# Altium integrated library Linear Technology Power Management Switching Regulator LT1074-LT8705.IntLib: 2252 symbols (part 140 of 148)
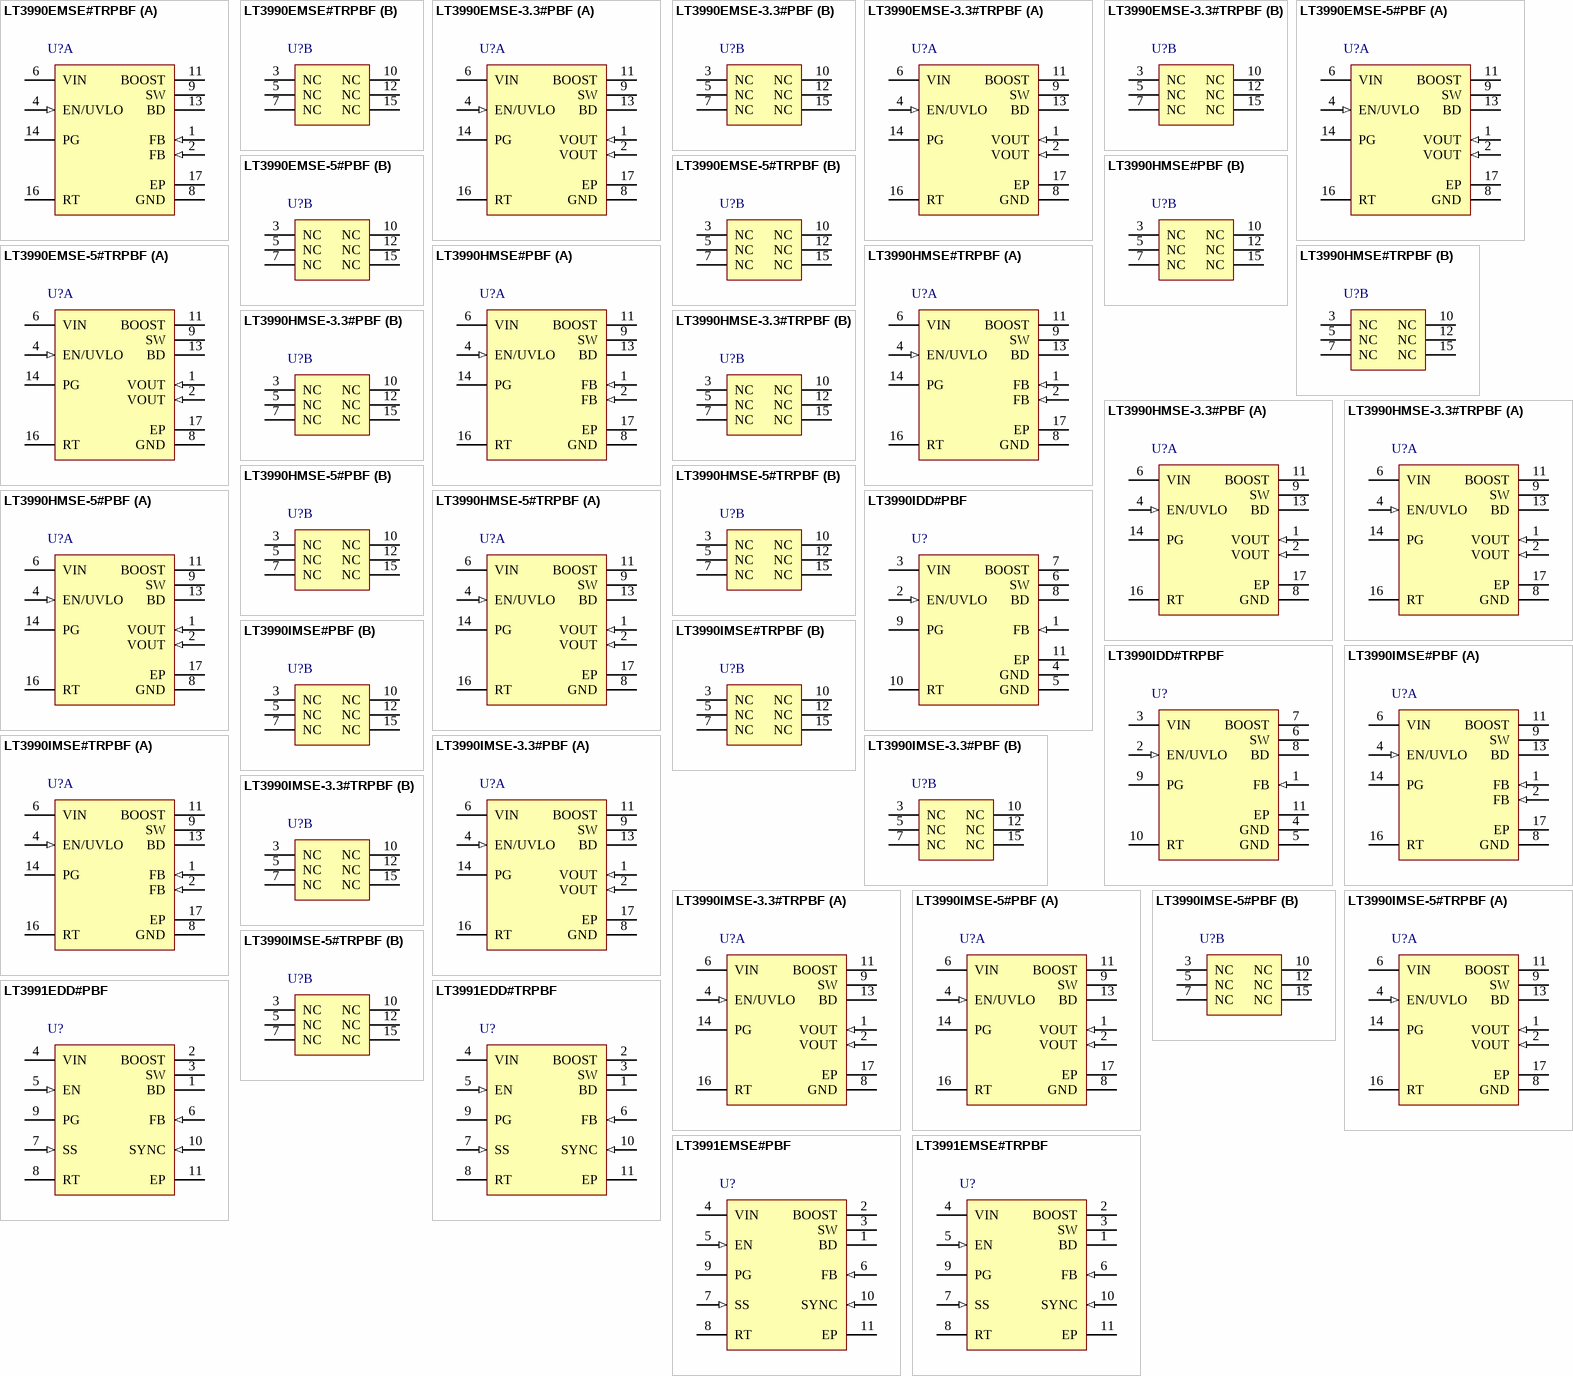
[diagram p210: symbols LT3990EMSE#TRPBF to LT3991EMSE#TRPBF]

## LT3990HMSE-3.3#TRPBF
designator U?
350 mA Step-Down Regulator with 2.5 uA Quiescent Current and Integrated Diodes, 16-pin SOP (MSE-16-EDP), -40 to 150 degC, Pb-Free, Tape and Reel; Manufacturer: Linear Technology; PartNumber: LT3990HMSE-3.3#TRPBF; Frequency Adjust Range: 200kHz - 2.2MHz; Number of Outputs: 1; DatasheetVersion: Rev. B; PackageVersion: Rev. F, 05/2013; PackageReference: MSE-16; PackageDescription: 16-Pin Plastic MSOP, Exposed Die Pad, Body 4.039 x 3 mm, Pitch 0.5 mm; Supplier 1: Digi-Key; Supplier Part Number 1: LT3990HMSE-3.3#TRPBF-ND; Supplier 2: Newark; Supplier Part Number 2: 24W8542; Packing: Tape and Reel; RoHS: TRUE; Mounting Technology: Surface Mount; ComponentLink1Description: Manufacturer URL; ComponentLink1URL: http://www.linear.com/; ComponentLink2Description: Datasheet; ComponentLink2URL: http://cds.linear.com/docs/en/datasheet/3990fa.pdf; ComponentLink3Description: Package Specification; ComponentLink3URL: http://cds.linear.com/docs/en/packaging/05081667_F_MSE16.pdf
footprint LT-MSE-16-EDP_N (SOP, 16-Leads, Body 4.1x3.1mm, Pitch 0.5mm, Thermal Pad 2.95x1.76mm, IPC Medium Density)
footprint LT-MSE-16-EDP_L (SOP, 16-Leads, Body 4.1x3.1mm, Pitch 0.5mm, Thermal Pad 2.95x1.76mm, IPC High Density)
footprint LT-MSE-16-EDP_M (SOP, 16-Leads, Body 4.1x3.1mm, Pitch 0.5mm, Thermal Pad 2.95x1.76mm, IPC Low Density)
part A pins: 1 VOUT (in) "The LT3990-3.3 and LT3990-5 regulate the VOUT pin to 3.3V and 5V, respectively. This pin connects to the internal feedback divider that programs the fixed output voltage. The two VOUT pins are connected internally and (See Datasheet)", 2 VOUT (in) "The LT3990-3.3 and LT3990-5 regulate the VOUT pin to 3.3V and 5V, respectively. This pin connects to the internal feedback divider that programs the fixed output voltage. The two VOUT pins are connected internally and (See Datasheet)", 4 EN/UVLO (in) "The part is in shutdown when this pin is low and active when this pin is high. The threshold voltage is 1.19V going up with 35mV of hysteresis. Tie to VIN if shutdown feature is not used. The EN/UVLO threshold is accurate (See Datasheet)", 6 VIN (power) "The VIN pin supplies current to the LT3990’s internal circuitry and to the internal power switch. This pin must be locally bypassed.", 8 GND (power) "Ground.", 9 SW (power) "The SW pin is the output of an internal power switch. Connect this pin to the inductor.", 11 BOOST "This pin is used to provide a drive voltage, higher than the input voltage, to the internal bipolar NPN power switch.", 13 BD (power) "This pin connects to the anode of the boost diode. This pin also supplies current to the LT3990’s internal regulator when BD is above 3.2V.", 14 PG (oc) "The PG pin is the open-drain output of an internal comparator. PG remains low until the FB pin is within 10% of the final regulation voltage. PG is valid when VIN is above 4.2V and EN/UVLO is high.", 16 RT "A resistor is tied between RT and ground to set the switching frequency.", 17 EP (power) "Ground. The exposed pad must be soldered to the PCB."
part B pins: 3 NC "No Connects. These pins are not connected to internal circuitry and must be left floating to ensure fault tolerance.", 5 NC "No Connects. These pins are not connected to internal circuitry and must be left floating to ensure fault tolerance.", 7 NC "No Connects. These pins are not connected to internal circuitry and must be left floating to ensure fault tolerance.", 10 NC "No Connects. These pins are not connected to internal circuitry and must be left floating to ensure fault tolerance.", 12 NC "No Connects. These pins are not connected to internal circuitry and must be left floating to ensure fault tolerance.", 15 NC "No Connects. These pins are not connected to internal circuitry and must be left floating to ensure fault tolerance."

## LT3990HMSE-5#PBF
designator U?
350 mA Step-Down Regulator with 2.5 uA Quiescent Current and Integrated Diodes, 16-pin SOP (MSE-16-EDP), -40 to 150 degC, Pb-Free; Manufacturer: Linear Technology; PartNumber: LT3990HMSE-5#PBF; Frequency Adjust Range: 200kHz - 2.2MHz; Number of Outputs: 1; DatasheetVersion: Rev. B; PackageVersion: Rev. F, 05/2013; PackageReference: MSE-16; PackageDescription: 16-Pin Plastic MSOP, Exposed Die Pad, Body 4.039 x 3 mm, Pitch 0.5 mm; Supplier 1: Digi-Key; Supplier Part Number 1: LT3990HMSE-5#PBF-ND; Supplier 2: Farnell; Supplier Part Number 2: 2145079; Supplier 3: Newark; Supplier Part Number 3: 24W8543; RoHS: TRUE; Mounting Technology: Surface Mount; ComponentLink1Description: Manufacturer URL; ComponentLink1URL: http://www.linear.com/; ComponentLink2Description: Datasheet; ComponentLink2URL: http://cds.linear.com/docs/en/datasheet/3990fa.pdf; ComponentLink3Description: Package Specification; ComponentLink3URL: http://cds.linear.com/docs/en/packaging/05081667_F_MSE16.pdf
footprint LT-MSE-16-EDP_N (SOP, 16-Leads, Body 4.1x3.1mm, Pitch 0.5mm, Thermal Pad 2.95x1.76mm, IPC Medium Density)
footprint LT-MSE-16-EDP_L (SOP, 16-Leads, Body 4.1x3.1mm, Pitch 0.5mm, Thermal Pad 2.95x1.76mm, IPC High Density)
footprint LT-MSE-16-EDP_M (SOP, 16-Leads, Body 4.1x3.1mm, Pitch 0.5mm, Thermal Pad 2.95x1.76mm, IPC Low Density)
part A pins: 1 VOUT (in) "The LT3990-3.3 and LT3990-5 regulate the VOUT pin to 3.3V and 5V, respectively. This pin connects to the internal feedback divider that programs the fixed output voltage. The two VOUT pins are connected internally and (See Datasheet)", 2 VOUT (in) "The LT3990-3.3 and LT3990-5 regulate the VOUT pin to 3.3V and 5V, respectively. This pin connects to the internal feedback divider that programs the fixed output voltage. The two VOUT pins are connected internally and (See Datasheet)", 4 EN/UVLO (in) "The part is in shutdown when this pin is low and active when this pin is high. The threshold voltage is 1.19V going up with 35mV of hysteresis. Tie to VIN if shutdown feature is not used. The EN/UVLO threshold is accurate (See Datasheet)", 6 VIN (power) "The VIN pin supplies current to the LT3990’s internal circuitry and to the internal power switch. This pin must be locally bypassed.", 8 GND (power) "Ground.", 9 SW (power) "The SW pin is the output of an internal power switch. Connect this pin to the inductor.", 11 BOOST "This pin is used to provide a drive voltage, higher than the input voltage, to the internal bipolar NPN power switch.", 13 BD (power) "This pin connects to the anode of the boost diode. This pin also supplies current to the LT3990’s internal regulator when BD is above 3.2V.", 14 PG (oc) "The PG pin is the open-drain output of an internal comparator. PG remains low until the FB pin is within 10% of the final regulation voltage. PG is valid when VIN is above 4.2V and EN/UVLO is high.", 16 RT "A resistor is tied between RT and ground to set the switching frequency.", 17 EP (power) "Ground. The exposed pad must be soldered to the PCB."
part B pins: 3 NC "No Connects. These pins are not connected to internal circuitry and must be left floating to ensure fault tolerance.", 5 NC "No Connects. These pins are not connected to internal circuitry and must be left floating to ensure fault tolerance.", 7 NC "No Connects. These pins are not connected to internal circuitry and must be left floating to ensure fault tolerance.", 10 NC "No Connects. These pins are not connected to internal circuitry and must be left floating to ensure fault tolerance.", 12 NC "No Connects. These pins are not connected to internal circuitry and must be left floating to ensure fault tolerance.", 15 NC "No Connects. These pins are not connected to internal circuitry and must be left floating to ensure fault tolerance."

## LT3990HMSE-5#TRPBF
designator U?
350 mA Step-Down Regulator with 2.5 uA Quiescent Current and Integrated Diodes, 16-pin SOP (MSE-16-EDP), -40 to 150 degC, Pb-Free, Tape and Reel; Manufacturer: Linear Technology; PartNumber: LT3990HMSE-5#TRPBF; Frequency Adjust Range: 200kHz - 2.2MHz; Number of Outputs: 1; DatasheetVersion: Rev. B; PackageVersion: Rev. F, 05/2013; PackageReference: MSE-16; PackageDescription: 16-Pin Plastic MSOP, Exposed Die Pad, Body 4.039 x 3 mm, Pitch 0.5 mm; Supplier 1: Digi-Key; Supplier Part Number 1: LT3990HMSE-5#TRPBF-ND; Supplier 2: Newark; Supplier Part Number 2: 24W8544; Packing: Tape and Reel; RoHS: TRUE; Mounting Technology: Surface Mount; ComponentLink1Description: Manufacturer URL; ComponentLink1URL: http://www.linear.com/; ComponentLink2Description: Datasheet; ComponentLink2URL: http://cds.linear.com/docs/en/datasheet/3990fa.pdf; ComponentLink3Description: Package Specification; ComponentLink3URL: http://cds.linear.com/docs/en/packaging/05081667_F_MSE16.pdf
footprint LT-MSE-16-EDP_N (SOP, 16-Leads, Body 4.1x3.1mm, Pitch 0.5mm, Thermal Pad 2.95x1.76mm, IPC Medium Density)
footprint LT-MSE-16-EDP_L (SOP, 16-Leads, Body 4.1x3.1mm, Pitch 0.5mm, Thermal Pad 2.95x1.76mm, IPC High Density)
footprint LT-MSE-16-EDP_M (SOP, 16-Leads, Body 4.1x3.1mm, Pitch 0.5mm, Thermal Pad 2.95x1.76mm, IPC Low Density)
part A pins: 1 VOUT (in) "The LT3990-3.3 and LT3990-5 regulate the VOUT pin to 3.3V and 5V, respectively. This pin connects to the internal feedback divider that programs the fixed output voltage. The two VOUT pins are connected internally and (See Datasheet)", 2 VOUT (in) "The LT3990-3.3 and LT3990-5 regulate the VOUT pin to 3.3V and 5V, respectively. This pin connects to the internal feedback divider that programs the fixed output voltage. The two VOUT pins are connected internally and (See Datasheet)", 4 EN/UVLO (in) "The part is in shutdown when this pin is low and active when this pin is high. The threshold voltage is 1.19V going up with 35mV of hysteresis. Tie to VIN if shutdown feature is not used. The EN/UVLO threshold is accurate (See Datasheet)", 6 VIN (power) "The VIN pin supplies current to the LT3990’s internal circuitry and to the internal power switch. This pin must be locally bypassed.", 8 GND (power) "Ground.", 9 SW (power) "The SW pin is the output of an internal power switch. Connect this pin to the inductor.", 11 BOOST "This pin is used to provide a drive voltage, higher than the input voltage, to the internal bipolar NPN power switch.", 13 BD (power) "This pin connects to the anode of the boost diode. This pin also supplies current to the LT3990’s internal regulator when BD is above 3.2V.", 14 PG (oc) "The PG pin is the open-drain output of an internal comparator. PG remains low until the FB pin is within 10% of the final regulation voltage. PG is valid when VIN is above 4.2V and EN/UVLO is high.", 16 RT "A resistor is tied between RT and ground to set the switching frequency.", 17 EP (power) "Ground. The exposed pad must be soldered to the PCB."
part B pins: 3 NC "No Connects. These pins are not connected to internal circuitry and must be left floating to ensure fault tolerance.", 5 NC "No Connects. These pins are not connected to internal circuitry and must be left floating to ensure fault tolerance.", 7 NC "No Connects. These pins are not connected to internal circuitry and must be left floating to ensure fault tolerance.", 10 NC "No Connects. These pins are not connected to internal circuitry and must be left floating to ensure fault tolerance.", 12 NC "No Connects. These pins are not connected to internal circuitry and must be left floating to ensure fault tolerance.", 15 NC "No Connects. These pins are not connected to internal circuitry and must be left floating to ensure fault tolerance."

## LT3990IDD#PBF
designator U?
350 mA Step-Down Regulator with 2.5 uA Quiescent Current and Integrated Diodes, 10-pin SON (DD-10), -40 to 125 degC, Pb-Free; Manufacturer: Linear Technology; PartNumber: LT3990IDD#PBF; Frequency Adjust Range: 200kHz - 2.2MHz; Number of Outputs: 1; DatasheetVersion: Rev. B; PackageVersion: Rev. C, 06/2010; PackageReference: DD-10; PackageDescription: 10-Pin Plastic DFN, Body 3 x 3 mm, Pitch 0.5 mm; Supplier 1: Digi-Key; Supplier Part Number 1: LT3990IDD#PBF-ND; Supplier 2: Farnell; Supplier Part Number 2: 2294971; Supplier 3: Newark; Supplier Part Number 3: 13T8601; RoHS: TRUE; Mounting Technology: Surface Mount; Code_JEDEC: MO-229; ComponentLink1Description: Manufacturer URL; ComponentLink1URL: http://www.linear.com/; ComponentLink2Description: Datasheet; ComponentLink2URL: http://cds.linear.com/docs/en/datasheet/3990fa.pdf; ComponentLink3Description: Package Specification; ComponentLink3URL: http://cds.linear.com/docs/en/packaging/DFN_10_05-08-1699.pdf
footprint LT-DD-10_V (SON, 10-Leads, Body 3x3mm, Pitch 0.5mm, Thermal Pad 2.38x1.65mm)
pins: 1 FB (in) "The LT3990 regulates the FB pin to 1.21V. Connect the feedback resistor divider tap to this pin. The two FB pins on the MSE package are connected internally and provide a redundant path for the feedback divider. Tie the (See Datasheet)", 2 EN/UVLO (in) "The part is in shutdown when this pin is low and active when this pin is high. The threshold voltage is 1.19V going up with 35mV of hysteresis. Tie to VIN if shutdown feature is not used. The EN/UVLO threshold is accurate (See Datasheet)", 3 VIN (power) "The VIN pin supplies current to the LT3990’s internal circuitry and to the internal power switch. This pin must be locally bypassed.", 4 GND (power) "Ground.", 5 GND (power) "Ground.", 6 SW (power) "The SW pin is the output of an internal power switch. Connect this pin to the inductor.", 7 BOOST "This pin is used to provide a drive voltage, higher than the input voltage, to the internal bipolar NPN power switch.", 8 BD (power) "This pin connects to the anode of the boost diode. This pin also supplies current to the LT3990’s internal regulator when BD is above 3.2V.", 9 PG (oc) "The PG pin is the open-drain output of an internal comparator. PG remains low until the FB pin is within 10% of the final regulation voltage. PG is valid when VIN is above 4.2V and EN/UVLO is high.", 10 RT "A resistor is tied between RT and ground to set the switching frequency.", 11 EP (power) "The exposed pad must be soldered to the PCB."

## LT3990IDD#TRPBF
designator U?
350 mA Step-Down Regulator with 2.5 uA Quiescent Current and Integrated Diodes, 10-pin SON (DD-10), -40 to 125 degC, Pb-Free, Tape and Reel; Manufacturer: Linear Technology; PartNumber: LT3990IDD#TRPBF; Frequency Adjust Range: 200kHz - 2.2MHz; Number of Outputs: 1; DatasheetVersion: Rev. B; PackageVersion: Rev. C, 06/2010; PackageReference: DD-10; PackageDescription: 10-Pin Plastic DFN, Body 3 x 3 mm, Pitch 0.5 mm; Supplier 1: Digi-Key; Supplier Part Number 1: LT3990IDD#TRPBF-ND; Supplier 2: Newark; Supplier Part Number 2: 13T8602; Packing: Tape and Reel; RoHS: TRUE; Mounting Technology: Surface Mount; Code_JEDEC: MO-229; ComponentLink1Description: Manufacturer URL; ComponentLink1URL: http://www.linear.com/; ComponentLink2Description: Datasheet; ComponentLink2URL: http://cds.linear.com/docs/en/datasheet/3990fa.pdf; ComponentLink3Description: Package Specification; ComponentLink3URL: http://cds.linear.com/docs/en/packaging/DFN_10_05-08-1699.pdf
footprint LT-DD-10_V (SON, 10-Leads, Body 3x3mm, Pitch 0.5mm, Thermal Pad 2.38x1.65mm)
pins: 1 FB (in) "The LT3990 regulates the FB pin to 1.21V. Connect the feedback resistor divider tap to this pin. The two FB pins on the MSE package are connected internally and provide a redundant path for the feedback divider. Tie the (See Datasheet)", 2 EN/UVLO (in) "The part is in shutdown when this pin is low and active when this pin is high. The threshold voltage is 1.19V going up with 35mV of hysteresis. Tie to VIN if shutdown feature is not used. The EN/UVLO threshold is accurate (See Datasheet)", 3 VIN (power) "The VIN pin supplies current to the LT3990’s internal circuitry and to the internal power switch. This pin must be locally bypassed.", 4 GND (power) "Ground.", 5 GND (power) "Ground.", 6 SW (power) "The SW pin is the output of an internal power switch. Connect this pin to the inductor.", 7 BOOST "This pin is used to provide a drive voltage, higher than the input voltage, to the internal bipolar NPN power switch.", 8 BD (power) "This pin connects to the anode of the boost diode. This pin also supplies current to the LT3990’s internal regulator when BD is above 3.2V.", 9 PG (oc) "The PG pin is the open-drain output of an internal comparator. PG remains low until the FB pin is within 10% of the final regulation voltage. PG is valid when VIN is above 4.2V and EN/UVLO is high.", 10 RT "A resistor is tied between RT and ground to set the switching frequency.", 11 EP (power) "The exposed pad must be soldered to the PCB."

## LT3990IMSE#PBF
designator U?
350 mA Step-Down Regulator with 2.5 uA Quiescent Current and Integrated Diodes, 16-pin SOP (MSE-16-EDP), -40 to 125 degC, Pb-Free; Manufacturer: Linear Technology; PartNumber: LT3990IMSE#PBF; Frequency Adjust Range: 200kHz - 2.2MHz; Number of Outputs: 1; DatasheetVersion: Rev. B; PackageVersion: Rev. F, 05/2013; PackageReference: MSE-16; PackageDescription: 16-Pin Plastic MSOP, Exposed Die Pad, Body 4.039 x 3 mm, Pitch 0.5 mm; Supplier 1: Digi-Key; Supplier Part Number 1: LT3990IMSE#PBF-ND; Supplier 2: Newark; Supplier Part Number 2: 13T8603; RoHS: TRUE; Mounting Technology: Surface Mount; ComponentLink1Description: Manufacturer URL; ComponentLink1URL: http://www.linear.com/; ComponentLink2Description: Datasheet; ComponentLink2URL: http://cds.linear.com/docs/en/datasheet/3990fa.pdf; ComponentLink3Description: Package Specification; ComponentLink3URL: http://cds.linear.com/docs/en/packaging/05081667_F_MSE16.pdf
footprint LT-MSE-16-EDP_N (SOP, 16-Leads, Body 4.1x3.1mm, Pitch 0.5mm, Thermal Pad 2.95x1.76mm, IPC Medium Density)
footprint LT-MSE-16-EDP_L (SOP, 16-Leads, Body 4.1x3.1mm, Pitch 0.5mm, Thermal Pad 2.95x1.76mm, IPC High Density)
footprint LT-MSE-16-EDP_M (SOP, 16-Leads, Body 4.1x3.1mm, Pitch 0.5mm, Thermal Pad 2.95x1.76mm, IPC Low Density)
part A pins: 1 FB (in) "The LT3990 regulates the FB pin to 1.21V. Connect the feedback resistor divider tap to this pin. The two FB pins on the MSE package are connected internally and provide a redundant path for the feedback divider. Tie the (See Datasheet)", 2 FB (in) "The LT3990 regulates the FB pin to 1.21V. Connect the feedback resistor divider tap to this pin. The two FB pins on the MSE package are connected internally and provide a redundant path for the feedback divider. Tie the (See Datasheet)", 4 EN/UVLO (in) "The part is in shutdown when this pin is low and active when this pin is high. The threshold voltage is 1.19V going up with 35mV of hysteresis. Tie to VIN if shutdown feature is not used. The EN/UVLO threshold is accurate (See Datasheet)", 6 VIN (power) "The VIN pin supplies current to the LT3990’s internal circuitry and to the internal power switch. This pin must be locally bypassed.", 8 GND (power) "Ground. The exposed pad must be soldered to the PCB.", 9 SW (power) "The SW pin is the output of an internal power switch. Connect this pin to the inductor.", 11 BOOST "This pin is used to provide a drive voltage, higher than the input voltage, to the internal bipolar NPN power switch.", 13 BD (power) "This pin connects to the anode of the boost diode. This pin also supplies current to the LT3990’s internal regulator when BD is above 3.2V.", 14 PG (oc) "The PG pin is the open-drain output of an internal comparator. PG remains low until the FB pin is within 10% of the final regulation voltage. PG is valid when VIN is above 4.2V and EN/UVLO is high.", 16 RT "A resistor is tied between RT and ground to set the switching frequency.", 17 EP (power) "Ground. The exposed pad must be soldered to the PCB."
part B pins: 3 NC "No Connects. These pins are not connected to internal circuitry and must be left floating to ensure fault tolerance.", 5 NC "No Connects. These pins are not connected to internal circuitry and must be left floating to ensure fault tolerance.", 7 NC "No Connects. These pins are not connected to internal circuitry and must be left floating to ensure fault tolerance.", 10 NC "No Connects. These pins are not connected to internal circuitry and must be left floating to ensure fault tolerance.", 12 NC "No Connects. These pins are not connected to internal circuitry and must be left floating to ensure fault tolerance.", 15 NC "No Connects. These pins are not connected to internal circuitry and must be left floating to ensure fault tolerance."

## LT3990IMSE#TRPBF
designator U?
350 mA Step-Down Regulator with 2.5 uA Quiescent Current and Integrated Diodes, 16-pin SOP (MSE-16-EDP), -40 to 125 degC, Pb-Free, Tape and Reel; Manufacturer: Linear Technology; PartNumber: LT3990IMSE#TRPBF; Frequency Adjust Range: 200kHz - 2.2MHz; Number of Outputs: 1; DatasheetVersion: Rev. B; PackageVersion: Rev. F, 05/2013; PackageReference: MSE-16; PackageDescription: 16-Pin Plastic MSOP, Exposed Die Pad, Body 4.039 x 3 mm, Pitch 0.5 mm; Supplier 1: Digi-Key; Supplier Part Number 1: LT3990IMSE#TRPBF-ND; Supplier 2: Newark; Supplier Part Number 2: 13T8604; Packing: Tape and Reel; RoHS: TRUE; Mounting Technology: Surface Mount; ComponentLink1Description: Manufacturer URL; ComponentLink1URL: http://www.linear.com/; ComponentLink2Description: Datasheet; ComponentLink2URL: http://cds.linear.com/docs/en/datasheet/3990fa.pdf; ComponentLink3Description: Package Specification; ComponentLink3URL: http://cds.linear.com/docs/en/packaging/05081667_F_MSE16.pdf
footprint LT-MSE-16-EDP_N (SOP, 16-Leads, Body 4.1x3.1mm, Pitch 0.5mm, Thermal Pad 2.95x1.76mm, IPC Medium Density)
footprint LT-MSE-16-EDP_L (SOP, 16-Leads, Body 4.1x3.1mm, Pitch 0.5mm, Thermal Pad 2.95x1.76mm, IPC High Density)
footprint LT-MSE-16-EDP_M (SOP, 16-Leads, Body 4.1x3.1mm, Pitch 0.5mm, Thermal Pad 2.95x1.76mm, IPC Low Density)
part A pins: 1 FB (in) "The LT3990 regulates the FB pin to 1.21V. Connect the feedback resistor divider tap to this pin. The two FB pins on the MSE package are connected internally and provide a redundant path for the feedback divider. Tie the (See Datasheet)", 2 FB (in) "The LT3990 regulates the FB pin to 1.21V. Connect the feedback resistor divider tap to this pin. The two FB pins on the MSE package are connected internally and provide a redundant path for the feedback divider. Tie the (See Datasheet)", 4 EN/UVLO (in) "The part is in shutdown when this pin is low and active when this pin is high. The threshold voltage is 1.19V going up with 35mV of hysteresis. Tie to VIN if shutdown feature is not used. The EN/UVLO threshold is accurate (See Datasheet)", 6 VIN (power) "The VIN pin supplies current to the LT3990’s internal circuitry and to the internal power switch. This pin must be locally bypassed.", 8 GND (power) "Ground. The exposed pad must be soldered to the PCB.", 9 SW (power) "The SW pin is the output of an internal power switch. Connect this pin to the inductor.", 11 BOOST "This pin is used to provide a drive voltage, higher than the input voltage, to the internal bipolar NPN power switch.", 13 BD (power) "This pin connects to the anode of the boost diode. This pin also supplies current to the LT3990’s internal regulator when BD is above 3.2V.", 14 PG (oc) "The PG pin is the open-drain output of an internal comparator. PG remains low until the FB pin is within 10% of the final regulation voltage. PG is valid when VIN is above 4.2V and EN/UVLO is high.", 16 RT "A resistor is tied between RT and ground to set the switching frequency.", 17 EP (power) "Ground. The exposed pad must be soldered to the PCB."
part B pins: 3 NC "No Connects. These pins are not connected to internal circuitry and must be left floating to ensure fault tolerance.", 5 NC "No Connects. These pins are not connected to internal circuitry and must be left floating to ensure fault tolerance.", 7 NC "No Connects. These pins are not connected to internal circuitry and must be left floating to ensure fault tolerance.", 10 NC "No Connects. These pins are not connected to internal circuitry and must be left floating to ensure fault tolerance.", 12 NC "No Connects. These pins are not connected to internal circuitry and must be left floating to ensure fault tolerance.", 15 NC "No Connects. These pins are not connected to internal circuitry and must be left floating to ensure fault tolerance."

## LT3990IMSE-3.3#PBF
designator U?
350 mA Step-Down Regulator with 2.5 uA Quiescent Current and Integrated Diodes, 16-pin SOP (MSE-16-EDP), -40 to 125 degC, Pb-Free; Manufacturer: Linear Technology; PartNumber: LT3990IMSE-3.3#PBF; Frequency Adjust Range: 200kHz - 2.2MHz; Number of Outputs: 1; DatasheetVersion: Rev. B; PackageVersion: Rev. F, 05/2013; PackageReference: MSE-16; PackageDescription: 16-Pin Plastic MSOP, Exposed Die Pad, Body 4.039 x 3 mm, Pitch 0.5 mm; Supplier 1: Digi-Key; Supplier Part Number 1: LT3990IMSE-3.3#PBF-ND; Supplier 2: Farnell; Supplier Part Number 2: 2145081; Supplier 3: Newark; Supplier Part Number 3: 24W8547; RoHS: TRUE; Mounting Technology: Surface Mount; ComponentLink1Description: Manufacturer URL; ComponentLink1URL: http://www.linear.com/; ComponentLink2Description: Datasheet; ComponentLink2URL: http://cds.linear.com/docs/en/datasheet/3990fa.pdf; ComponentLink3Description: Package Specification; ComponentLink3URL: http://cds.linear.com/docs/en/packaging/05081667_F_MSE16.pdf
footprint LT-MSE-16-EDP_N (SOP, 16-Leads, Body 4.1x3.1mm, Pitch 0.5mm, Thermal Pad 2.95x1.76mm, IPC Medium Density)
footprint LT-MSE-16-EDP_L (SOP, 16-Leads, Body 4.1x3.1mm, Pitch 0.5mm, Thermal Pad 2.95x1.76mm, IPC High Density)
footprint LT-MSE-16-EDP_M (SOP, 16-Leads, Body 4.1x3.1mm, Pitch 0.5mm, Thermal Pad 2.95x1.76mm, IPC Low Density)
part A pins: 1 VOUT (in) "The LT3990-3.3 and LT3990-5 regulate the VOUT pin to 3.3V and 5V, respectively. This pin connects to the internal feedback divider that programs the fixed output voltage. The two VOUT pins are connected internally and (See Datasheet)", 2 VOUT (in) "The LT3990-3.3 and LT3990-5 regulate the VOUT pin to 3.3V and 5V, respectively. This pin connects to the internal feedback divider that programs the fixed output voltage. The two VOUT pins are connected internally and (See Datasheet)", 4 EN/UVLO (in) "The part is in shutdown when this pin is low and active when this pin is high. The threshold voltage is 1.19V going up with 35mV of hysteresis. Tie to VIN if shutdown feature is not used. The EN/UVLO threshold is accurate (See Datasheet)", 6 VIN (power) "The VIN pin supplies current to the LT3990’s internal circuitry and to the internal power switch. This pin must be locally bypassed.", 8 GND (power) "Ground.", 9 SW (power) "The SW pin is the output of an internal power switch. Connect this pin to the inductor.", 11 BOOST "This pin is used to provide a drive voltage, higher than the input voltage, to the internal bipolar NPN power switch.", 13 BD (power) "This pin connects to the anode of the boost diode. This pin also supplies current to the LT3990’s internal regulator when BD is above 3.2V.", 14 PG (oc) "The PG pin is the open-drain output of an internal comparator. PG remains low until the FB pin is within 10% of the final regulation voltage. PG is valid when VIN is above 4.2V and EN/UVLO is high.", 16 RT "A resistor is tied between RT and ground to set the switching frequency.", 17 EP (power) "Ground. The exposed pad must be soldered to the PCB."
part B pins: 3 NC "No Connects. These pins are not connected to internal circuitry and must be left floating to ensure fault tolerance.", 5 NC "No Connects. These pins are not connected to internal circuitry and must be left floating to ensure fault tolerance.", 7 NC "No Connects. These pins are not connected to internal circuitry and must be left floating to ensure fault tolerance.", 10 NC "No Connects. These pins are not connected to internal circuitry and must be left floating to ensure fault tolerance.", 12 NC "No Connects. These pins are not connected to internal circuitry and must be left floating to ensure fault tolerance.", 15 NC "No Connects. These pins are not connected to internal circuitry and must be left floating to ensure fault tolerance."

## LT3990IMSE-3.3#TRPBF
designator U?
350 mA Step-Down Regulator with 2.5 uA Quiescent Current and Integrated Diodes, 16-pin SOP (MSE-16-EDP), -40 to 125 degC, Pb-Free, Tape and Reel; Manufacturer: Linear Technology; PartNumber: LT3990IMSE-3.3#TRPBF; Frequency Adjust Range: 200kHz - 2.2MHz; Number of Outputs: 1; DatasheetVersion: Rev. B; PackageVersion: Rev. F, 05/2013; PackageReference: MSE-16; PackageDescription: 16-Pin Plastic MSOP, Exposed Die Pad, Body 4.039 x 3 mm, Pitch 0.5 mm; Supplier 1: Digi-Key; Supplier Part Number 1: LT3990IMSE-3.3#TRPBF-ND; Supplier 2: Newark; Supplier Part Number 2: 24W8548; Packing: Tape and Reel; RoHS: TRUE; Mounting Technology: Surface Mount; ComponentLink1Description: Manufacturer URL; ComponentLink1URL: http://www.linear.com/; ComponentLink2Description: Datasheet; ComponentLink2URL: http://cds.linear.com/docs/en/datasheet/3990fa.pdf; ComponentLink3Description: Package Specification; ComponentLink3URL: http://cds.linear.com/docs/en/packaging/05081667_F_MSE16.pdf
footprint LT-MSE-16-EDP_N (SOP, 16-Leads, Body 4.1x3.1mm, Pitch 0.5mm, Thermal Pad 2.95x1.76mm, IPC Medium Density)
footprint LT-MSE-16-EDP_L (SOP, 16-Leads, Body 4.1x3.1mm, Pitch 0.5mm, Thermal Pad 2.95x1.76mm, IPC High Density)
footprint LT-MSE-16-EDP_M (SOP, 16-Leads, Body 4.1x3.1mm, Pitch 0.5mm, Thermal Pad 2.95x1.76mm, IPC Low Density)
part A pins: 1 VOUT (in) "The LT3990-3.3 and LT3990-5 regulate the VOUT pin to 3.3V and 5V, respectively. This pin connects to the internal feedback divider that programs the fixed output voltage. The two VOUT pins are connected internally and (See Datasheet)", 2 VOUT (in) "The LT3990-3.3 and LT3990-5 regulate the VOUT pin to 3.3V and 5V, respectively. This pin connects to the internal feedback divider that programs the fixed output voltage. The two VOUT pins are connected internally and (See Datasheet)", 4 EN/UVLO (in) "The part is in shutdown when this pin is low and active when this pin is high. The threshold voltage is 1.19V going up with 35mV of hysteresis. Tie to VIN if shutdown feature is not used. The EN/UVLO threshold is accurate (See Datasheet)", 6 VIN (power) "The VIN pin supplies current to the LT3990’s internal circuitry and to the internal power switch. This pin must be locally bypassed.", 8 GND (power) "Ground.", 9 SW (power) "The SW pin is the output of an internal power switch. Connect this pin to the inductor.", 11 BOOST "This pin is used to provide a drive voltage, higher than the input voltage, to the internal bipolar NPN power switch.", 13 BD (power) "This pin connects to the anode of the boost diode. This pin also supplies current to the LT3990’s internal regulator when BD is above 3.2V.", 14 PG (oc) "The PG pin is the open-drain output of an internal comparator. PG remains low until the FB pin is within 10% of the final regulation voltage. PG is valid when VIN is above 4.2V and EN/UVLO is high.", 16 RT "A resistor is tied between RT and ground to set the switching frequency.", 17 EP (power) "Ground. The exposed pad must be soldered to the PCB."
part B pins: 3 NC "No Connects. These pins are not connected to internal circuitry and must be left floating to ensure fault tolerance.", 5 NC "No Connects. These pins are not connected to internal circuitry and must be left floating to ensure fault tolerance.", 7 NC "No Connects. These pins are not connected to internal circuitry and must be left floating to ensure fault tolerance.", 10 NC "No Connects. These pins are not connected to internal circuitry and must be left floating to ensure fault tolerance.", 12 NC "No Connects. These pins are not connected to internal circuitry and must be left floating to ensure fault tolerance.", 15 NC "No Connects. These pins are not connected to internal circuitry and must be left floating to ensure fault tolerance."

## LT3990IMSE-5#PBF
designator U?
350 mA Step-Down Regulator with 2.5 uA Quiescent Current and Integrated Diodes, 16-pin SOP (MSE-16-EDP), -40 to 125 degC, Pb-Free; Manufacturer: Linear Technology; PartNumber: LT3990IMSE-5#PBF; Frequency Adjust Range: 200kHz - 2.2MHz; Number of Outputs: 1; DatasheetVersion: Rev. B; PackageVersion: Rev. F, 05/2013; PackageReference: MSE-16; PackageDescription: 16-Pin Plastic MSOP, Exposed Die Pad, Body 4.039 x 3 mm, Pitch 0.5 mm; Supplier 1: Digi-Key; Supplier Part Number 1: LT3990IMSE-5#PBF-ND; Supplier 2: Farnell; Supplier Part Number 2: 2145082; Supplier 3: Newark; Supplier Part Number 3: 24W8549; RoHS: TRUE; Mounting Technology: Surface Mount; ComponentLink1Description: Manufacturer URL; ComponentLink1URL: http://www.linear.com/; ComponentLink2Description: Datasheet; ComponentLink2URL: http://cds.linear.com/docs/en/datasheet/3990fa.pdf; ComponentLink3Description: Package Specification; ComponentLink3URL: http://cds.linear.com/docs/en/packaging/05081667_F_MSE16.pdf
footprint LT-MSE-16-EDP_N (SOP, 16-Leads, Body 4.1x3.1mm, Pitch 0.5mm, Thermal Pad 2.95x1.76mm, IPC Medium Density)
footprint LT-MSE-16-EDP_L (SOP, 16-Leads, Body 4.1x3.1mm, Pitch 0.5mm, Thermal Pad 2.95x1.76mm, IPC High Density)
footprint LT-MSE-16-EDP_M (SOP, 16-Leads, Body 4.1x3.1mm, Pitch 0.5mm, Thermal Pad 2.95x1.76mm, IPC Low Density)
part A pins: 1 VOUT (in) "The LT3990-3.3 and LT3990-5 regulate the VOUT pin to 3.3V and 5V, respectively. This pin connects to the internal feedback divider that programs the fixed output voltage. The two VOUT pins are connected internally and (See Datasheet)", 2 VOUT (in) "The LT3990-3.3 and LT3990-5 regulate the VOUT pin to 3.3V and 5V, respectively. This pin connects to the internal feedback divider that programs the fixed output voltage. The two VOUT pins are connected internally and (See Datasheet)", 4 EN/UVLO (in) "The part is in shutdown when this pin is low and active when this pin is high. The threshold voltage is 1.19V going up with 35mV of hysteresis. Tie to VIN if shutdown feature is not used. The EN/UVLO threshold is accurate (See Datasheet)", 6 VIN (power) "The VIN pin supplies current to the LT3990’s internal circuitry and to the internal power switch. This pin must be locally bypassed.", 8 GND (power) "Ground.", 9 SW (power) "The SW pin is the output of an internal power switch. Connect this pin to the inductor.", 11 BOOST "This pin is used to provide a drive voltage, higher than the input voltage, to the internal bipolar NPN power switch.", 13 BD (power) "This pin connects to the anode of the boost diode. This pin also supplies current to the LT3990’s internal regulator when BD is above 3.2V.", 14 PG (oc) "The PG pin is the open-drain output of an internal comparator. PG remains low until the FB pin is within 10% of the final regulation voltage. PG is valid when VIN is above 4.2V and EN/UVLO is high.", 16 RT "A resistor is tied between RT and ground to set the switching frequency.", 17 EP (power) "Ground. The exposed pad must be soldered to the PCB."
part B pins: 3 NC "No Connects. These pins are not connected to internal circuitry and must be left floating to ensure fault tolerance.", 5 NC "No Connects. These pins are not connected to internal circuitry and must be left floating to ensure fault tolerance.", 7 NC "No Connects. These pins are not connected to internal circuitry and must be left floating to ensure fault tolerance.", 10 NC "No Connects. These pins are not connected to internal circuitry and must be left floating to ensure fault tolerance.", 12 NC "No Connects. These pins are not connected to internal circuitry and must be left floating to ensure fault tolerance.", 15 NC "No Connects. These pins are not connected to internal circuitry and must be left floating to ensure fault tolerance."

## LT3990IMSE-5#TRPBF
designator U?
350 mA Step-Down Regulator with 2.5 uA Quiescent Current and Integrated Diodes, 16-pin SOP (MSE-16-EDP), -40 to 125 degC, Pb-Free, Tape and Reel; Manufacturer: Linear Technology; PartNumber: LT3990IMSE-5#TRPBF; Frequency Adjust Range: 200kHz - 2.2MHz; Number of Outputs: 1; DatasheetVersion: Rev. B; PackageVersion: Rev. F, 05/2013; PackageReference: MSE-16; PackageDescription: 16-Pin Plastic MSOP, Exposed Die Pad, Body 4.039 x 3 mm, Pitch 0.5 mm; Supplier 1: Digi-Key; Supplier Part Number 1: LT3990IMSE-5#TRPBF-ND; Supplier 2: Newark; Supplier Part Number 2: 24W8550; Packing: Tape and Reel; RoHS: TRUE; Mounting Technology: Surface Mount; ComponentLink1Description: Manufacturer URL; ComponentLink1URL: http://www.linear.com/; ComponentLink2Description: Datasheet; ComponentLink2URL: http://cds.linear.com/docs/en/datasheet/3990fa.pdf; ComponentLink3Description: Package Specification; ComponentLink3URL: http://cds.linear.com/docs/en/packaging/05081667_F_MSE16.pdf
footprint LT-MSE-16-EDP_N (SOP, 16-Leads, Body 4.1x3.1mm, Pitch 0.5mm, Thermal Pad 2.95x1.76mm, IPC Medium Density)
footprint LT-MSE-16-EDP_L (SOP, 16-Leads, Body 4.1x3.1mm, Pitch 0.5mm, Thermal Pad 2.95x1.76mm, IPC High Density)
footprint LT-MSE-16-EDP_M (SOP, 16-Leads, Body 4.1x3.1mm, Pitch 0.5mm, Thermal Pad 2.95x1.76mm, IPC Low Density)
part A pins: 1 VOUT (in) "The LT3990-3.3 and LT3990-5 regulate the VOUT pin to 3.3V and 5V, respectively. This pin connects to the internal feedback divider that programs the fixed output voltage. The two VOUT pins are connected internally and (See Datasheet)", 2 VOUT (in) "The LT3990-3.3 and LT3990-5 regulate the VOUT pin to 3.3V and 5V, respectively. This pin connects to the internal feedback divider that programs the fixed output voltage. The two VOUT pins are connected internally and (See Datasheet)", 4 EN/UVLO (in) "The part is in shutdown when this pin is low and active when this pin is high. The threshold voltage is 1.19V going up with 35mV of hysteresis. Tie to VIN if shutdown feature is not used. The EN/UVLO threshold is accurate (See Datasheet)", 6 VIN (power) "The VIN pin supplies current to the LT3990’s internal circuitry and to the internal power switch. This pin must be locally bypassed.", 8 GND (power) "Ground.", 9 SW (power) "The SW pin is the output of an internal power switch. Connect this pin to the inductor.", 11 BOOST "This pin is used to provide a drive voltage, higher than the input voltage, to the internal bipolar NPN power switch.", 13 BD (power) "This pin connects to the anode of the boost diode. This pin also supplies current to the LT3990’s internal regulator when BD is above 3.2V.", 14 PG (oc) "The PG pin is the open-drain output of an internal comparator. PG remains low until the FB pin is within 10% of the final regulation voltage. PG is valid when VIN is above 4.2V and EN/UVLO is high.", 16 RT "A resistor is tied between RT and ground to set the switching frequency.", 17 EP (power) "Ground. The exposed pad must be soldered to the PCB."
part B pins: 3 NC "No Connects. These pins are not connected to internal circuitry and must be left floating to ensure fault tolerance.", 5 NC "No Connects. These pins are not connected to internal circuitry and must be left floating to ensure fault tolerance.", 7 NC "No Connects. These pins are not connected to internal circuitry and must be left floating to ensure fault tolerance.", 10 NC "No Connects. These pins are not connected to internal circuitry and must be left floating to ensure fault tolerance.", 12 NC "No Connects. These pins are not connected to internal circuitry and must be left floating to ensure fault tolerance.", 15 NC "No Connects. These pins are not connected to internal circuitry and must be left floating to ensure fault tolerance."

## LT3991EDD#PBF
designator U?
1.2 A Step-Down Regulator with 2.8 uA Quiescent Current, 10-pin SON (DD-10), -40 to 125 degC, Pb-Free; Manufacturer: Linear Technology; PartNumber: LT3991EDD#PBF; Frequency Adjust Range: 200kHz - 2MHz; Number of Outputs: 1; DatasheetVersion: Rev. A; PackageVersion: Rev. C, 06/2010; PackageReference: DD-10; PackageDescription: 10-Pin Plastic DFN, Body 3 x 3 mm, Pitch 0.5 mm; Supplier 1: Digi-Key; Supplier Part Number 1: LT3991EDD#PBF-ND; Supplier 2: Farnell; Supplier Part Number 2: 1839166; Supplier 3: Newark; Supplier Part Number 3: 53R1598; RoHS: TRUE; Mounting Technology: Surface Mount; Code_JEDEC: MO-229; ComponentLink1Description: Manufacturer URL; ComponentLink1URL: http://www.linear.com/; ComponentLink2Description: Datasheet; ComponentLink2URL: http://cds.linear.com/docs/en/datasheet/3991fa.pdf; ComponentLink3Description: Package Specification; ComponentLink3URL: http://cds.linear.com/docs/en/packaging/DFN_10_05-08-1699.pdf
footprint LT-DD-10_V (SON, 10-Leads, Body 3x3mm, Pitch 0.5mm, Thermal Pad 2.38x1.65mm)
pins: 1 BD (power) "This pin connects to the anode of the boost diode. The BD pin is normally connected to the output.", 2 BOOST "This pin is used to provide a drive voltage, higher than the input voltage, to the internal bipolar NPN power switch.", 3 SW (power) "The SW pin is the output of an internal power switch. Connect this pin to the inductor, catch diode, and boost capacitor.", 4 VIN (power), 5 EN (in), 6 FB (in), 7 SS (in), 8 RT "A resistor is tied between RT and ground to set the switching frequency.", 9 PG (oc), 10 SYNC (in) "This is the external clock synchronization input. Ground this pin for low ripple Burst Mode operation at low output loads. Tie to a clock source for synchronization, which will include pulse-skipping at low output loads. (See Datasheet)", 11 EP (power) "Ground. The exposed pad must be soldered to PCB."

## LT3991EDD#TRPBF
designator U?
1.2 A Step-Down Regulator with 2.8 uA Quiescent Current, 10-pin SON (DD-10), -40 to 125 degC, Pb-Free, Tape and Reel; Manufacturer: Linear Technology; PartNumber: LT3991EDD#TRPBF; Frequency Adjust Range: 200kHz - 2MHz; Number of Outputs: 1; DatasheetVersion: Rev. A; PackageVersion: Rev. C, 06/2010; PackageReference: DD-10; PackageDescription: 10-Pin Plastic DFN, Body 3 x 3 mm, Pitch 0.5 mm; Supplier 1: Digi-Key; Supplier Part Number 1: LT3991EDD#TRPBF-ND; Supplier 2: Newark; Supplier Part Number 2: 13T8605; Packing: Tape and Reel; RoHS: TRUE; Mounting Technology: Surface Mount; Code_JEDEC: MO-229; ComponentLink1Description: Manufacturer URL; ComponentLink1URL: http://www.linear.com/; ComponentLink2Description: Datasheet; ComponentLink2URL: http://cds.linear.com/docs/en/datasheet/3991fa.pdf; ComponentLink3Description: Package Specification; ComponentLink3URL: http://cds.linear.com/docs/en/packaging/DFN_10_05-08-1699.pdf
footprint LT-DD-10_V (SON, 10-Leads, Body 3x3mm, Pitch 0.5mm, Thermal Pad 2.38x1.65mm)
pins: 1 BD (power) "This pin connects to the anode of the boost diode. The BD pin is normally connected to the output.", 2 BOOST "This pin is used to provide a drive voltage, higher than the input voltage, to the internal bipolar NPN power switch.", 3 SW (power) "The SW pin is the output of an internal power switch. Connect this pin to the inductor, catch diode, and boost capacitor.", 4 VIN (power), 5 EN (in), 6 FB (in), 7 SS (in), 8 RT "A resistor is tied between RT and ground to set the switching frequency.", 9 PG (oc), 10 SYNC (in) "This is the external clock synchronization input. Ground this pin for low ripple Burst Mode operation at low output loads. Tie to a clock source for synchronization, which will include pulse-skipping at low output loads. (See Datasheet)", 11 EP (power) "Ground. The exposed pad must be soldered to PCB."

## LT3991EMSE#PBF
designator U?
1.2 A Step-Down Regulator with 2.8 uA Quiescent Current, 10-pin SOP (MSE-10-EDP), -40 to 125 degC, Pb-Free; Manufacturer: Linear Technology; PartNumber: LT3991EMSE#PBF; Frequency Adjust Range: 200kHz - 2MHz; Number of Outputs: 1; DatasheetVersion: Rev. A; PackageVersion: Rev. I, 05/2013; PackageReference: MSE-10; PackageDescription: 10-Pin Plastic MSOP, Exposed Die Pad, Body 3 x 3 mm, Pitch 0.5 mm; Supplier 1: Digi-Key; Supplier Part Number 1: LT3991EMSE#PBF-ND; Supplier 2: Farnell; Supplier Part Number 2: 1839167; Supplier 3: Newark; Supplier Part Number 3: 53R1599; RoHS: TRUE; Mounting Technology: Surface Mount; ComponentLink1Description: Manufacturer URL; ComponentLink1URL: http://www.linear.com/; ComponentLink2Description: Datasheet; ComponentLink2URL: http://cds.linear.com/docs/en/datasheet/3991fa.pdf; ComponentLink3Description: Package Specification; ComponentLink3URL: http://cds.linear.com/docs/en/packaging/05081664_I_MSE.pdf
footprint LT-MSE-10-EDP_N (SOP, 10-Leads, Body 3.1x3.1mm, Pitch 0.5mm, Thermal Pad 1.88x1.68mm, IPC Medium Density)
footprint LT-MSE-10-EDP_L (SOP, 10-Leads, Body 3.1x3.1mm, Pitch 0.5mm, Thermal Pad 1.88x1.68mm, IPC High Density)
footprint LT-MSE-10-EDP_M (SOP, 10-Leads, Body 3.1x3.1mm, Pitch 0.5mm, Thermal Pad 1.88x1.68mm, IPC Low Density)
pins: 1 BD (power) "This pin connects to the anode of the boost diode. The BD pin is normally connected to the output.", 2 BOOST "This pin is used to provide a drive voltage, higher than the input voltage, to the internal bipolar NPN power switch.", 3 SW (power) "The SW pin is the output of an internal power switch. Connect this pin to the inductor, catch diode, and boost capacitor.", 4 VIN (power), 5 EN (in), 6 FB (in), 7 SS (in), 8 RT "A resistor is tied between RT and ground to set the switching frequency.", 9 PG (oc), 10 SYNC (in) "This is the external clock synchronization input. Ground this pin for low ripple Burst Mode operation at low output loads. Tie to a clock source for synchronization, which will include pulse-skipping at low output loads. (See Datasheet)", 11 EP (power) "Ground. The exposed pad must be soldered to PCB."

## LT3991EMSE#TRPBF
designator U?
1.2 A Step-Down Regulator with 2.8 uA Quiescent Current, 10-pin SOP (MSE-10-EDP), -40 to 125 degC, Pb-Free, Tape and Reel; Manufacturer: Linear Technology; PartNumber: LT3991EMSE#TRPBF; Frequency Adjust Range: 200kHz - 2MHz; Number of Outputs: 1; DatasheetVersion: Rev. A; PackageVersion: Rev. I, 05/2013; PackageReference: MSE-10; PackageDescription: 10-Pin Plastic MSOP, Exposed Die Pad, Body 3 x 3 mm, Pitch 0.5 mm; Supplier 1: Digi-Key; Supplier Part Number 1: LT3991EMSE#TRPBF-ND; Packing: Tape and Reel; RoHS: TRUE; Mounting Technology: Surface Mount; ComponentLink1Description: Manufacturer URL; ComponentLink1URL: http://www.linear.com/; ComponentLink2Description: Datasheet; ComponentLink2URL: http://cds.linear.com/docs/en/datasheet/3991fa.pdf; ComponentLink3Description: Package Specification; ComponentLink3URL: http://cds.linear.com/docs/en/packaging/05081664_I_MSE.pdf
footprint LT-MSE-10-EDP_N (SOP, 10-Leads, Body 3.1x3.1mm, Pitch 0.5mm, Thermal Pad 1.88x1.68mm, IPC Medium Density)
footprint LT-MSE-10-EDP_L (SOP, 10-Leads, Body 3.1x3.1mm, Pitch 0.5mm, Thermal Pad 1.88x1.68mm, IPC High Density)
footprint LT-MSE-10-EDP_M (SOP, 10-Leads, Body 3.1x3.1mm, Pitch 0.5mm, Thermal Pad 1.88x1.68mm, IPC Low Density)
pins: 1 BD (power) "This pin connects to the anode of the boost diode. The BD pin is normally connected to the output.", 2 BOOST "This pin is used to provide a drive voltage, higher than the input voltage, to the internal bipolar NPN power switch.", 3 SW (power) "The SW pin is the output of an internal power switch. Connect this pin to the inductor, catch diode, and boost capacitor.", 4 VIN (power), 5 EN (in), 6 FB (in), 7 SS (in), 8 RT "A resistor is tied between RT and ground to set the switching frequency.", 9 PG (oc), 10 SYNC (in) "This is the external clock synchronization input. Ground this pin for low ripple Burst Mode operation at low output loads. Tie to a clock source for synchronization, which will include pulse-skipping at low output loads. (See Datasheet)", 11 EP (power) "Ground. The exposed pad must be soldered to PCB."

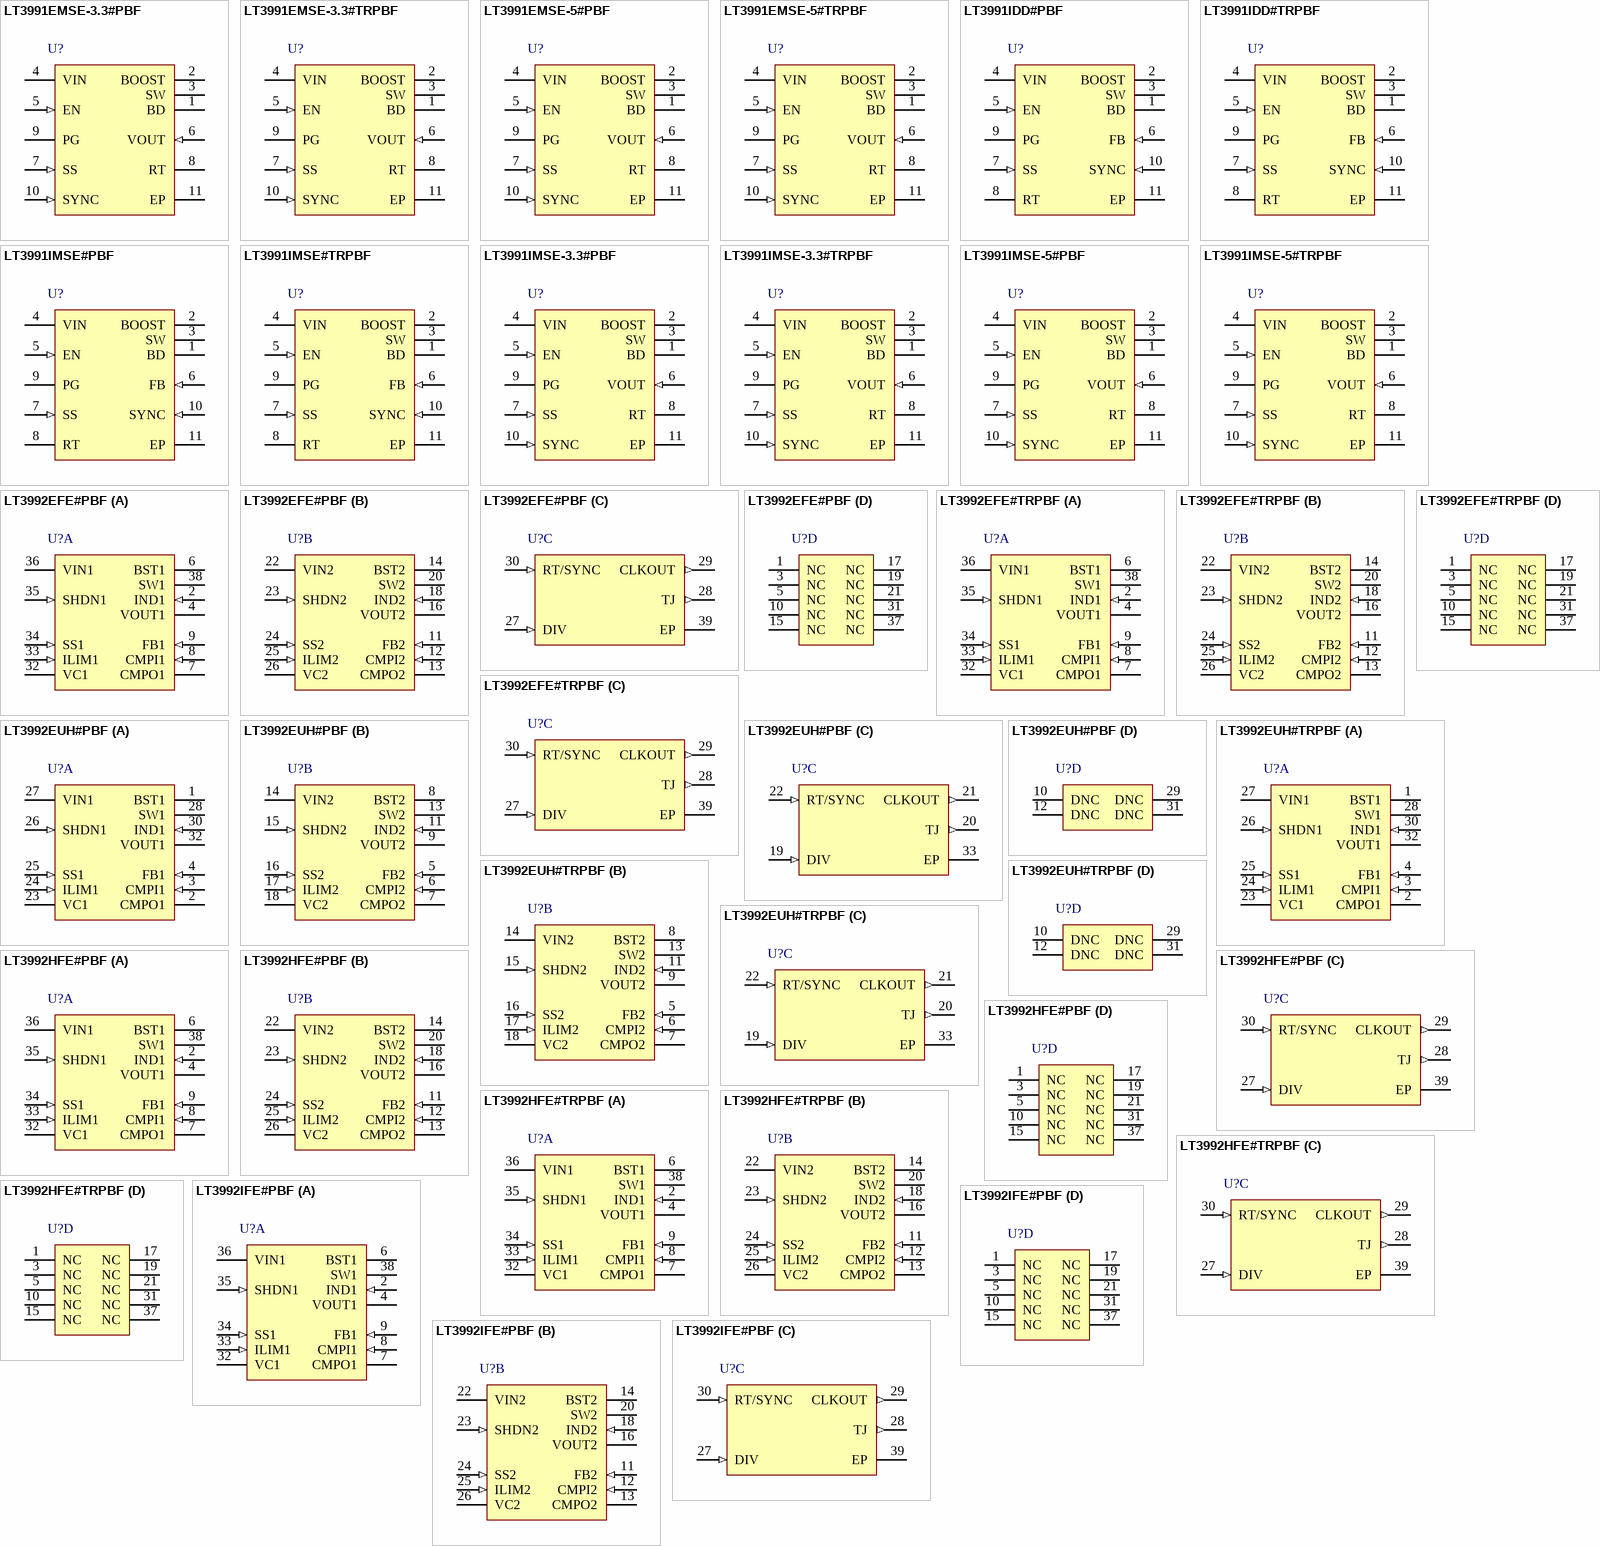
[diagram p68: symbols LT3991EMSE-3.3#PBF to LT3992IFE#PBF]